# EAGLE library part POE-TP (library ELL-i-Connectors)
Twisted pair Power-over-Ethernet MDI connector This is an 8-pin female twisted pair Ethernet <https://en.wikipedia.org/wiki/Ethernet_over_twisted_pair> jack, either an RJ45 jack <https://en.wikipedia.org/wiki/Registered_jack#RJ45> or an TIA/EIA-568 <https://en.wikipedia.org/wiki/TIA/EIA-568-B> punchdown jack. These connector are common for Cat5, Cat5e, and Cat6 Ethernet cables. In the used symbol, the TX and RX pins are named according to the medium dependent interface <https://en.wikipedia.org/wiki/Medium_dependent_interface> or computer (non-switch) side order, i.e. transmit on pins 1 and 2 on pair 3 (green in T568A or orange in T568B) and receive on pins 3 and 6 on pair 2 (orange in T568A and green in T568B), and extra pairs according to the Power-over-Ethernet <https://en.wikipedia.org/wiki/Power_over_Ethernet> Mode B specification, i.e. pins 4–5 (pair 1) and 7–8 (pair 4) forming the sides of the 48V DC. Hence, this symbol has 6 pin names while having 8 pins: TX+, TX-, RX+, RX-, POE+ and POE-, where the POE+ and POE- may be reversed at the network side, always requiring a diode bridge. Please note that neither T568A nor T568B are de facto standards for residential or commercial data wiring. It is a choice the company terminating the wire makes. Most people use A as it is easier to remember. In terms of data integrity (does the data arrive without loss ) there is no difference between the two wiring standards. You select one wiring standard and maintain it. As long as you have a straight through jumper data will be transmitted without errors. The ELL-i recommendation is to use T568A.
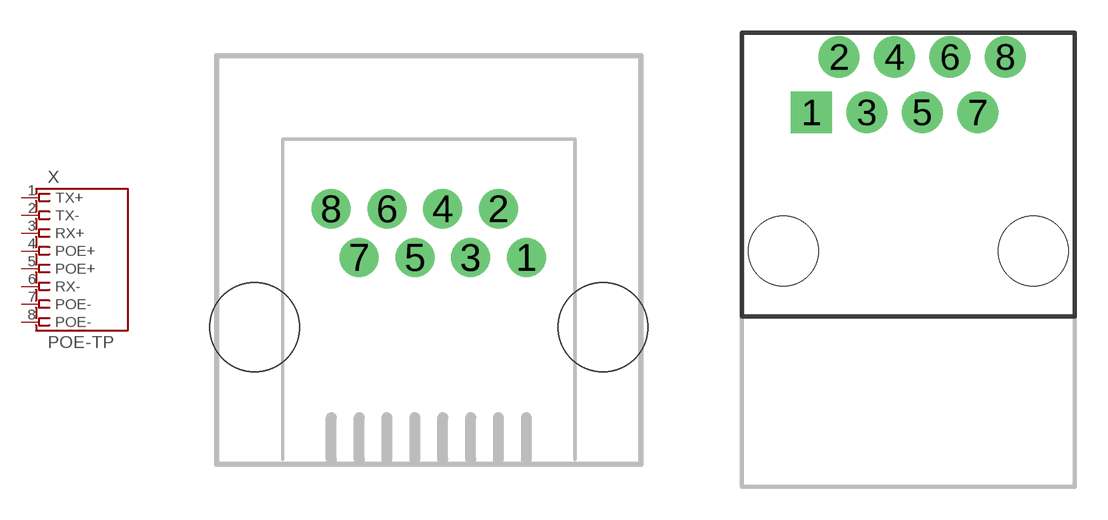
[diagram p6: symbol with the pads of MOLEX-43860-0001; footprints MOLEX-43860-0001, 4UCON-04892]

Designator prefix X

## POE-TP-RJ45-MOLEX-43860-0001  [MOLEX-43860-0001]
1  TX+  in
2  TX-  in
3  RX+  out
4  POE+  pwr
5  POE+  pwr
6  RX-  out
7  POE-  pwr
8  POE-  pwr

## POE-TP-RJ45-4UCON  [4UCON-04892]
Pads as for MOLEX-43860-0001

## POE-TP-PD-BELFUSE-T568A  [BELFUSE-SS-51-PD-T568A]
Pads as for MOLEX-43860-0001

## POE-TP-RJ45-MOLEX-85502-5008  [MOLEX-85502-5008]
Pads as for MOLEX-43860-0001

## Footprint MOLEX-43860-0001 (pad centres in mm)
Molex RJ45 Modular Jack, Right Angle, Low Profile, Inverted, 8P8C Molex 43860-0001 Datasheet <http://www.molex.com/molex/products/datasheet.jsp?part=active/0438600001_MODULAR_JACKS_PLUG.xml>
drill 0.889 pad 1.422: 1 3.556,2.54; 2 2.54,4.318; 3 1.524,2.54; 4 0.508,4.318; 5 -0.508,2.54; 6 -1.524,4.318; 7 -2.54,2.54; 8 -3.556,4.318
hole 3.251 at 6.35,0
hole 3.251 at -6.35,0

## Footprint 4UCON-04892 (pad centres in mm)
SparkFun RJ45 8-pin connector Chinese 4UCON <http://www.4uconnector.com/online/SearchPro.asp?FormName=ProSearch&FormAction=search&s_GroupNo=08&s_keyword=04892> modular jack 04892, very low profile (11.65mm). 8P8C, black insulator without panel. Stop split feet. Gold plated 6U. Footprint Copyright (c) SparkFun under Creative Commons Share Alike License. Not proven in production, see the discussion at the SparkFun site. SparkFun connector <https://www.sparkfun.com/products/643> SparkFun breakout board <https://www.sparkfun.com/products/716> There is currently no 3D model for this connector.
drill 1 pad 1.88 square: 1 -4.445,6.35
drill 1 pad 1.88: 2 -3.175,8.89; 3 -1.905,6.35; 4 -0.635,8.89; 5 0.635,6.35; 6 1.905,8.89; 7 3.175,6.35; 8 4.445,8.89
hole 3.2 at -5.715,0
hole 3.2 at 5.715,0

## Footprint BELFUSE-SS-51-PD-T568A (pad centres in mm)
Belfuse SS-51 8-pin Punch Down Block This is an Belfuse SS-51 8-pin EIA 110 PCB punch down block. EIA 110 punchdown blocks are used for fixed Ethernet installations, either in T568A or T568B pin order. Product webpage. <http://belfuse.com/ethernet/punch-down-blocks/> Datasheet. <http://belfuse.com/pdfs/CT510004.pdf>
drill 1.1: 1 -3.302,0; 2 -6.604,0; 3 6.604,0; 4 16.51,0; 5 13.208,0; 6 3.302,0; 7 -13.208,0; 8 -16.51,0

## Footprint MOLEX-85502-5008 (pad centres in mm)
Molex RJ-45 jack SMT 85502-5008 Modular RJ-45 Jack, Right Angle, Low Profile, SMT, 8/8, Gold (Au) Datasheet <http://www.molex.com/elqNow/elqRedir.htm?ref=http://www.molex.com/webdocs/datasheets/pdf/en-us/0855025008_MODULAR_JACKS_PLUG.pdf> Product page <http://www.molex.com/molex/products/datasheet.jsp?part=active/0855025008_MODULAR_JACKS_PLUG.xml>
smd 0.76 x 6.35: 1 -4.445,10.3; 2 -3.175,10.3; 3 -1.905,10.3; 4 -0.635,10.3; 5 0.635,10.3; 6 1.905,10.3; 7 3.175,10.3; 8 4.445,10.3
smd 5.15 x 2.8: S1 -8.1,0; S2 8.1,0